# EAGLE library part PSF-A85 (library ITEAD)
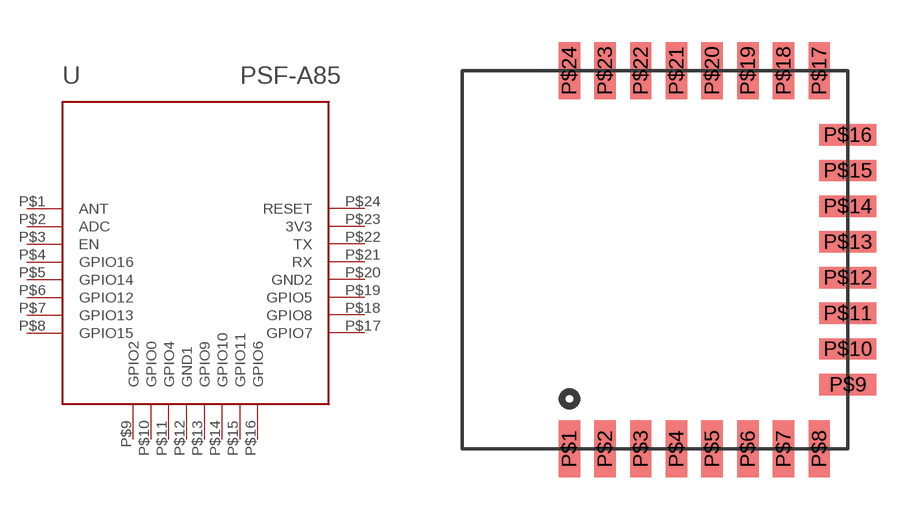
[diagram p0: symbol with the pads of PSF-A85; footprint PSF-A85]

Designator prefix U

## PSF-A85  [PSF-A85]
P$1  ANT
P$2  ADC
P$3  EN
P$4  GPIO16
P$5  GPIO14
P$6  GPIO12
P$7  GPIO13
P$8  GPIO15
P$9  GPIO2
P$10  GPIO0
P$11  GPIO4
P$12  GND1
P$13  GPIO9
P$14  GPIO10
P$15  GPIO11
P$16  GPIO6
P$17  GPIO7
P$18  GPIO8
P$19  GPIO5
P$20  GND2
P$21  RX
P$22  TX
P$23  3V3
P$24  RESET

## Footprint PSF-A85 (pad centres in mm)
smd 0.762 x 2.032: P$1 3.81,0; P$2 5.08,0; P$3 6.35,0; P$4 7.62,0; P$5 8.89,0; P$6 10.16,0; P$7 11.43,0; P$8 12.7,0; P$17 12.7,13.462; P$18 11.43,13.462; P$19 10.16,13.462; P$20 8.89,13.462; P$21 7.62,13.462; P$22 6.35,13.462; P$23 5.08,13.462; P$24 3.81,13.462
smd 2.032 x 0.762: P$9 13.716,2.286; P$10 13.716,3.556; P$11 13.716,4.826; P$12 13.716,6.096; P$13 13.716,7.366; P$14 13.716,8.636; P$15 13.716,9.906; P$16 13.716,11.176